# EAGLE library part WEBP6-6 (library con-malina)
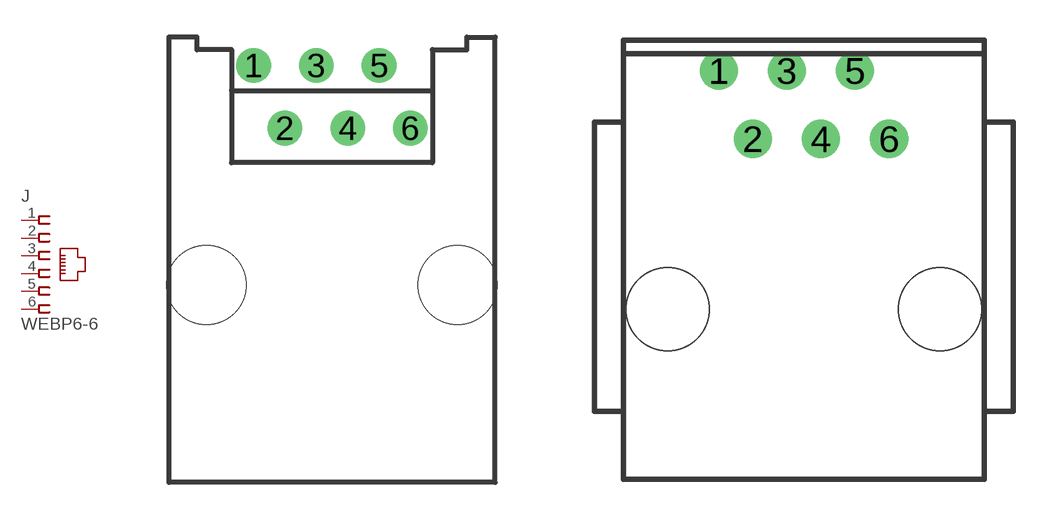
[diagram p1: symbol with the pads of WEBP6-6; footprints WEBP6-6, WEBP6-6_180]

Designator prefix J

## WEBP6-6  [WEBP6-6]
1  1  pas
2  2  pas
3  3  pas
4  4  pas
5  5  pas
6  6  pas

## WEBP6-6_180  [WEBP6-6_180]
Pads as for WEBP6-6

## WEBP6-6_180_SPEC  [WEBP6-6_180_SPEC]
Pads as for WEBP6-6

## WEBP6-6_SPEC  [WEBP6-6_SPEC]
Pads as for WEBP6-6

## WEBP6-6_SPEC2  [WEBP6-6_SPEC2]
Pads as for WEBP6-6

## Footprint WEBP6-6 (pad centres in mm)
drill 0.6 pad 1.4: 1 -3.175,8.89; 2 -1.905,6.35; 3 -0.635,8.89; 4 0.635,6.35; 5 1.905,8.89; 6 3.175,6.35
hole 3.2 at -5.08,0
hole 3.2 at 5.08,0

## Footprint WEBP6-6_180 (pad centres in mm)
drill 0.6 pad 1.422: 1 -3.175,8.89; 2 -1.905,6.35; 3 -0.635,8.89; 4 0.635,6.35; 5 1.905,8.89; 6 3.175,6.35
hole 3.1 at -5.08,0
hole 3.1 at 5.08,0

## Footprint WEBP6-6_180_SPEC (pad centres in mm)
drill 0.6 pad 1.2 long: 1 -3.175,8.89; 2 -1.905,6.35; 3 -0.635,8.89; 4 0.635,6.35; 5 1.905,8.89; 6 3.175,6.35
hole 3.1 at -5.08,0
hole 3.1 at 5.08,0

## Footprint WEBP6-6_SPEC (pad centres in mm)
drill 0.6 pad 1.2 offset: 1 -3.175,8.89; 2 -1.905,6.35; 3 -0.635,8.89; 4 0.635,6.35; 5 1.905,8.89; 6 3.175,6.35
hole 3.2 at -5.08,0
hole 3.2 at 5.08,0

## Footprint WEBP6-6_SPEC2 (pad centres in mm)
drill 0.6 pad 1.4: 1 -3.175,8.89; 2 -1.905,6.35; 3 -0.635,8.89; 4 0.635,6.35; 5 1.905,8.89; 6 3.175,6.35
hole 3.2 at -5.08,0
hole 3.2 at 5.08,0